# EAGLE library part DF40C-40 (library con-Hirose)
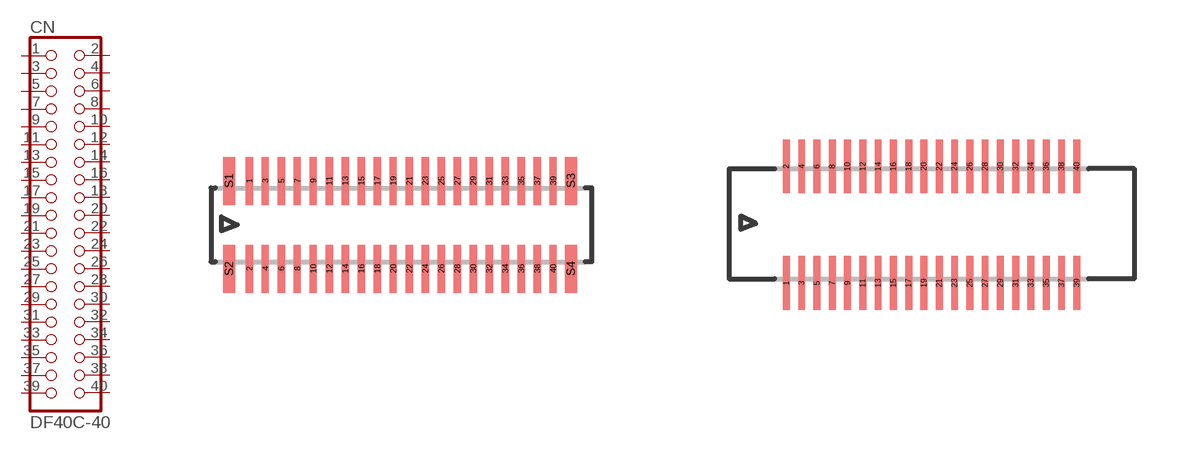
[diagram p16: symbol with the pads of DF40C-40DP; footprints DF40C-40DP, DF40C-40DS]

Designator prefix CN

## DF40C-40DP  [DF40C-40DP]
1  1  pas
2  2  pas
3  3  pas
4  4  pas
5  5  pas
6  6  pas
7  7  pas
8  8  pas
9  9  pas
10  10  pas
11  11  pas
12  12  pas
13  13  pas
14  14  pas
15  15  pas
16  16  pas
17  17  pas
18  18  pas
19  19  pas
20  20  pas
21  21  pas
22  22  pas
23  23  pas
24  24  pas
25  25  pas
26  26  pas
27  27  pas
28  28  pas
29  29  pas
30  30  pas
31  31  pas
32  32  pas
33  33  pas
34  34  pas
35  35  pas
36  36  pas
37  37  pas
38  38  pas
39  39  pas
40  40  pas

## DF40C-40DS  [DF40C-40DS]
Pads as for DF40C-40DP

## Footprint DF40C-40DP (pad centres in mm)
smd 0.18 x 1.2: 1 -3.8,1.1; 2 -3.8,-1.1; 3 -3.4,1.1; 4 -3.4,-1.1; 5 -3,1.1; 6 -3,-1.1; 7 -2.6,1.1; 8 -2.6,-1.1; 9 -2.2,1.1; 10 -2.2,-1.1; 11 -1.8,1.1; 12 -1.8,-1.1; 13 -1.4,1.1; 14 -1.4,-1.1; 15 -1,1.1; 16 -1,-1.1; 17 -0.6,1.1; 18 -0.6,-1.1; 19 -0.2,1.1; 20 -0.2,-1.1; 21 0.2,1.1; 22 0.2,-1.1; 23 0.6,1.1; 24 0.6,-1.1; 25 1,1.1; 26 1,-1.1; 27 1.4,1.1; 28 1.4,-1.1; 29 1.8,1.1; 30 1.8,-1.1; 31 2.2,1.1; 32 2.2,-1.1; 33 2.6,1.1; 34 2.6,-1.1; 35 3,1.1; 36 3,-1.1; 37 3.4,1.1; 38 3.4,-1.1; 39 3.8,1.1; 40 3.8,-1.1
smd 0.3 x 1.2: S1 -4.3,1.1; S2 -4.3,-1.1; S3 4.25,1.1; S4 4.25,-1.1

## Footprint DF40C-40DS (pad centres in mm)
smd 0.18 x 1.4: 1 -3.8,-1.55; 2 -3.8,1.5; 3 -3.4,-1.55; 4 -3.4,1.5; 5 -3,-1.55; 6 -3,1.5; 7 -2.6,-1.55; 8 -2.6,1.5; 9 -2.2,-1.55; 10 -2.2,1.5; 11 -1.8,-1.55; 12 -1.8,1.5; 13 -1.4,-1.55; 14 -1.4,1.5; 15 -1,-1.55; 16 -1,1.5; 17 -0.6,-1.55; 18 -0.6,1.5; 19 -0.2,-1.55; 20 -0.2,1.5; 21 0.2,-1.55; 22 0.2,1.5; 23 0.6,-1.55; 24 0.6,1.5; 25 1,-1.55; 26 1,1.5; 27 1.4,-1.55; 28 1.4,1.5; 29 1.8,-1.55; 30 1.8,1.5; 31 2.2,-1.55; 32 2.2,1.5; 33 2.6,-1.55; 34 2.6,1.5; 35 3,-1.55; 36 3,1.5; 37 3.4,-1.55; 38 3.4,1.5; 39 3.8,-1.55; 40 3.8,1.5